# Altium integrated library MBJCG168BB7104KTPA18.IntLib: 1 symbol
Pins are listed as number, name and electrical type; pins without a type are passive.

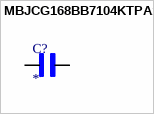
[diagram p0: symbol MBJCG168BB7104KTPA18]

## MBJCG168BB7104KTPA18
designator C?
0.1uF 35V 10% Multilayer Ceramic Capacitor X7R 0603 (1608 Metric); MF: Taiyo Yuden; MP: MBJCG168BB7104KTPA18; SnapEDA_Link: https://www.snapeda.com/parts/MBJCG168BB7104KTPA18/Taiyo+Yuden/view-part/?ref=snap; Package: 1608-2 TAIYO; Value: *; Check_prices: https://www.snapeda.com/parts/MBJCG168BB7104KTPA18/Taiyo+Yuden/view-part/?ref=eda
footprint CAPC1608X100N
pins: 1, 2